# EAGLE library part LPS331AP (library LPS331AP)
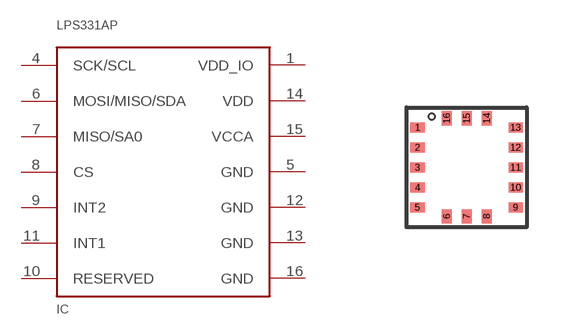
[diagram p0: symbol with the pads of HCLGA-16L; footprint HCLGA-16L]

Designator prefix IC

## LPS331AP  [HCLGA-16L]
1  VDD_IO  pwr
4  SCK/SCL  in
5  GND  pwr
6  MOSI/MISO/SDA
7  MISO/SA0  out
8  CS  in
9  INT2  out
10  RESERVED  in
11  INT1  out
12  GND  pwr
13  GND  pwr
14  VDD  pwr
15  VCCA  pwr
16  GND  pwr

## Footprint HCLGA-16L (pad centres in mm)
smd 0.35 x 0.25: 1 -1.225,1; 2 -1.225,0.5; 3 -1.225,0; 4 -1.225,-0.5; 5 -1.225,-1; 9 1.225,-1; 10 1.225,-0.5; 11 1.225,0; 12 1.225,0.5; 13 1.225,1
smd 0.25 x 0.35: 6 -0.5,-1.225; 7 0,-1.225; 8 0.5,-1.225; 14 0.5,1.225; 15 0,1.225; 16 -0.5,1.225